# EAGLE library part EHF-105-01-L-D-SM (library con-samtec)
EHF Pin Header
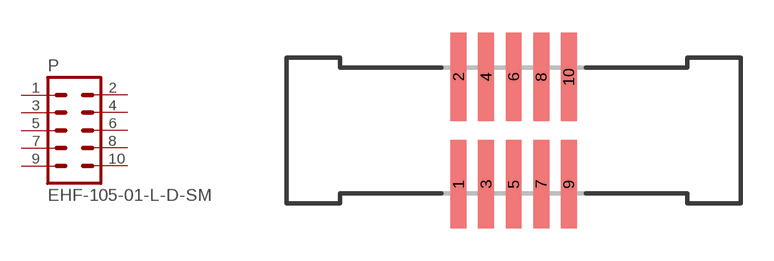
[diagram p6: symbol with the pads of EHF-105-01-L-D-SM; footprint EHF-105-01-L-D-SM]

Designator prefix P

## EHF-105-01-L-D-SM  [EHF-105-01-L-D-SM]
1  1  pas
2  2  pas
3  3  pas
4  4  pas
5  5  pas
6  6  pas
7  7  pas
8  8  pas
9  9  pas
10  10  pas

## Footprint EHF-105-01-L-D-SM (pad centres in mm)
CONN HEADER .05" 10POS DUAL SMD SAMTECH
smd 0.737 x 4.089: 1 -2.54,-2.477; 2 -2.54,2.477; 3 -1.27,-2.477; 4 -1.27,2.477; 5 0,-2.477; 6 0,2.477; 7 1.27,-2.477; 8 1.27,2.477; 9 2.54,-2.477; 10 2.54,2.477